# EAGLE library part ANTENNA-AT920 (library Discrete)
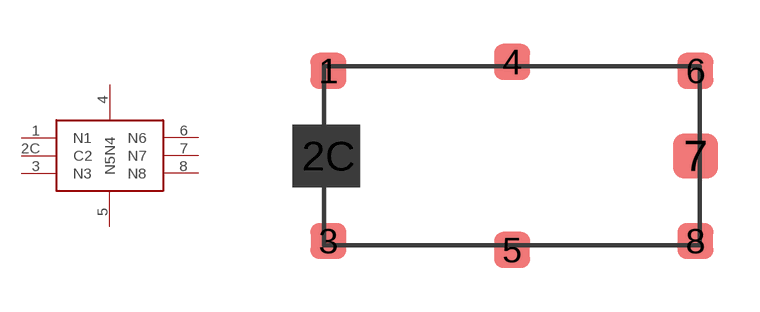
[diagram p11: symbol with the pads of SMD8; footprint SMD8]

Designator prefix ANT

## ANTENNA-AT920  [SMD8]
1  N1
2C  C2
3  N3
4  N4
5  N5
6  N6
7  N7
8  N8

## Footprint SMD8 (pad centres in mm)
smd 1.016 x 1.016: 1 -5.207,2.413; 3 -5.207,-2.413; 4 0,2.667; 5 0,-2.667; 6 5.207,2.413; 8 5.207,-2.413
smd 1.27 x 1.27: 2C -5.207,0; 7 5.207,0